# Altium footprint library 四位一体数码管.PcbLib: 4 footprints
Each footprint in its own frame and in the unit in brackets; x right, y up, seen from the top. Pads: shape width x height; smd on the part's side, far side on the other; paste and mask are expansions set on the pad; w line width, h text height; cw(c..) or ccw(c..) is an arc to the next point about the centre after c.
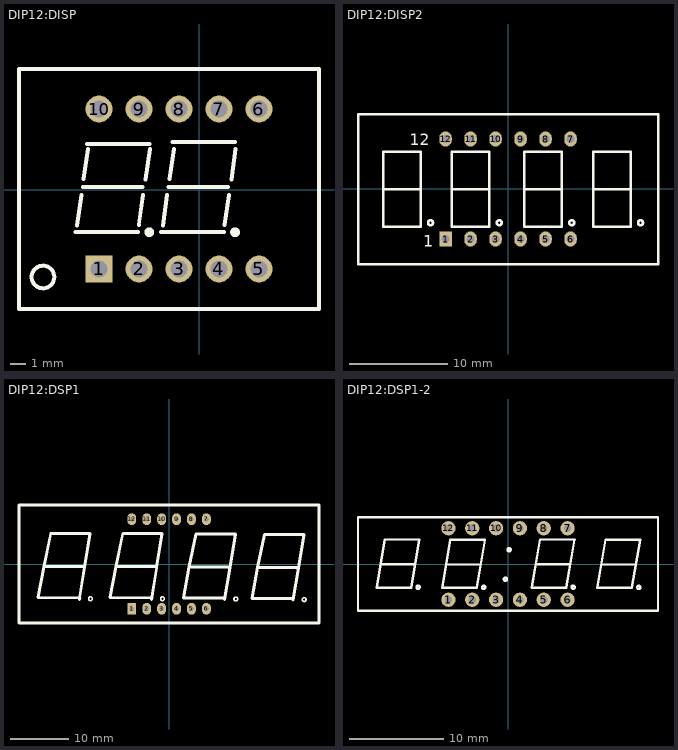
[diagram p0: the footprints below, top view; thin cyan lines are the x and y axes]

## DIP12:DISP [mm]
height 2.032
pads (10):
  rect 1.7x1.7 hole 1.1: 1(-6.35,-5.03)
  round 1.7 hole 1.1: 2(-3.81,-5.03) 3(-1.27,-5.03) 4(1.27,-5.03) 5(3.81,-5.03) 6(3.81,5.13) 7(1.27,5.13) 8(-1.27,5.13) 9(-3.81,5.13) 10(-6.35,5.13)
Top Overlay:
  circle w0.3: c2.29,-2.695 r0.16
  circle w0.3: c-3.16,-2.695 r0.16
  circle w0.254: c-9.906,-5.538 r0.718
  lines w0.254: -7.85,-2.695 -3.875,-2.695 ; -7.75,-2.27 -7.475,-0.345 ; -7.375,0.18 -3.6,0.18 ; -7.325,0.68 -7.05,2.605 ; -7.112,2.921 -3.137,2.921 ; -3.825,-2.245 -3.55,-0.32 ; -3.4,0.655 -3.125,2.58 ; -2.4,-2.695 1.575,-2.695 ; -2.3,-2.27 -2.025,-0.345 ; -1.925,0.18 1.85,0.18 ; -1.875,0.68 -1.6,2.605 ; -1.675,3.03 2.3,3.03 ; 1.625,-2.245 1.9,-0.32 ; 2.05,0.655 2.325,2.58 ; 7.62,-7.57 -11.43,-7.57 -11.43,7.67 7.62,7.67 7.62,-7.493

## DIP12:DISP2 [mil]
height 80
pads (12):
  rect 50x60 hole 32: 1(-250,-200)
  oval 50x60 hole 32: 2(-150,-200) 3(-50,-200) 4(50,-200) 5(150,-200) 6(250,-200) 7(250,200) 8(150,200) 9(50,200) 10(-50,200) 11(-150,200) 12(-250,200)
Top Overlay:
  circle w10: c-310,-135 r10
  circle w10: c-35,-135 r10
  circle w10: c255,-135 r10
  circle w10: c530,-135 r10
  lines w10: -500,0 -350,0 ; -225,0 -75,0 ; 65,0 215,0 ; 340,0 490,0 ; -600,-300 -600,300 600,300 600,-300 -600,-300 ; -500,-150 -500,150 -350,150 -350,-150 -500,-150 ; -225,-150 -225,150 -75,150 -75,-150 -225,-150 ; 65,-150 65,150 215,150 215,-150 65,-150 ; 340,-150 340,150 490,150 490,-150 340,-150
  text "12" at -393.7,175.59 h45
  text "1" at -340,-230 h47.24

## DIP12:DSP1 [mm]
height 2.032
pads (12):
  rect 1.5x2 hole 0.8: 1(-6.35,-7.62)
  oval 1.5x2 hole 0.8: 2(-3.81,-7.62) 3(-1.27,-7.62) 4(1.27,-7.62) 5(3.81,-7.62) 6(6.35,-7.62) 7(6.35,7.62) 8(3.81,7.62) 9(1.27,7.62) 10(-1.27,7.62) 11(-3.81,7.62) 12(-6.35,7.62)
Top Overlay:
  circle w0.254: c-13.375,-5.905 r0.329
  circle w0.254: c-1.125,-5.905 r0.329
  circle w0.254: c11.35,-5.955 r0.329
  circle w0.254: c22.975,-6.055 r0.329
  lines w0.508: -15.275,-6.005 -14.35,-0.555 -13.425,5.17 -20.125,5.17 -21.3,-0.455 ; -15.175,-5.755 -22.275,-5.705 -21.3,-0.455 ; -14.45,-0.455 -21.3,-0.455 ; -3.025,-6.005 -2.1,-0.555 -1.175,5.17 -7.875,5.17 -9.05,-0.455 ; -2.925,-5.755 -10.025,-5.705 -9.05,-0.455 ; -2.2,-0.455 -9.05,-0.455 ; 9.45,-6.055 10.375,-0.605 11.3,5.12 4.6,5.12 3.425,-0.505 ; 9.55,-5.805 2.45,-5.755 3.425,-0.505 ; 10.275,-0.505 3.425,-0.505 ; 21.075,-6.155 22,-0.705 22.925,5.02 16.225,5.02 15.05,-0.605 ; 21.175,-5.905 14.075,-5.855 15.05,-0.605 ; 21.9,-0.605 15.05,-0.605 ; -25.525,-10 -6.35,-10 25.5,-10 25.5,7.62 25.5,9.995 -6.35,10 -25.5,10 -25.5,7.62 -25.525,-10

## DIP12:DSP1-2 [mil]
height 80
pads (12):
  round 60 hole 30: 1(-250,-150) 2(-150,-150) 3(-50,-150) 4(50,-150) 5(150,-150) 6(250,-150) 7(250,150) 8(150,150) 9(50,150) 10(-50,150) 11(-150,150) 12(-250,150)
Top Overlay:
  circle w10: c-377.72,-97.36 r6.52
  circle w10: c-102.44,-98.15 r6.52
  circle w10: c273.8,-97.36 r6.52
  circle w10: c549.08,-98.15 r6.52
  circle w10: c4.44,60.2 r6.52
  circle w10: c-10.95,-63.44 r6.52
  lines w10: -535.27,-1.13 -390.14,-1.13 ; -259.99,-1.92 -114.86,-1.92 ; 116.25,-1.13 261.39,-1.13 ; 391.54,-1.92 536.67,-1.92 ; -629.92,-196.85 -629.92,196.85 629.92,196.85 629.92,-196.85 -629.92,-196.85 ; -551.83,-98.94 -517.13,102.99 -371.99,102.99 -406.7,-98.94 -551.83,-98.94 ; -276.55,-99.73 -241.85,102.2 -96.71,102.2 -131.42,-99.73 -276.55,-99.73 ; 99.69,-98.94 134.4,102.99 279.53,102.99 244.82,-98.94 99.69,-98.94 ; 374.97,-99.73 409.68,102.2 554.81,102.2 520.11,-99.73 374.97,-99.73